# Altium integrated library AD Analog Comparator.IntLib: 78 symbols (part 2 of 2)
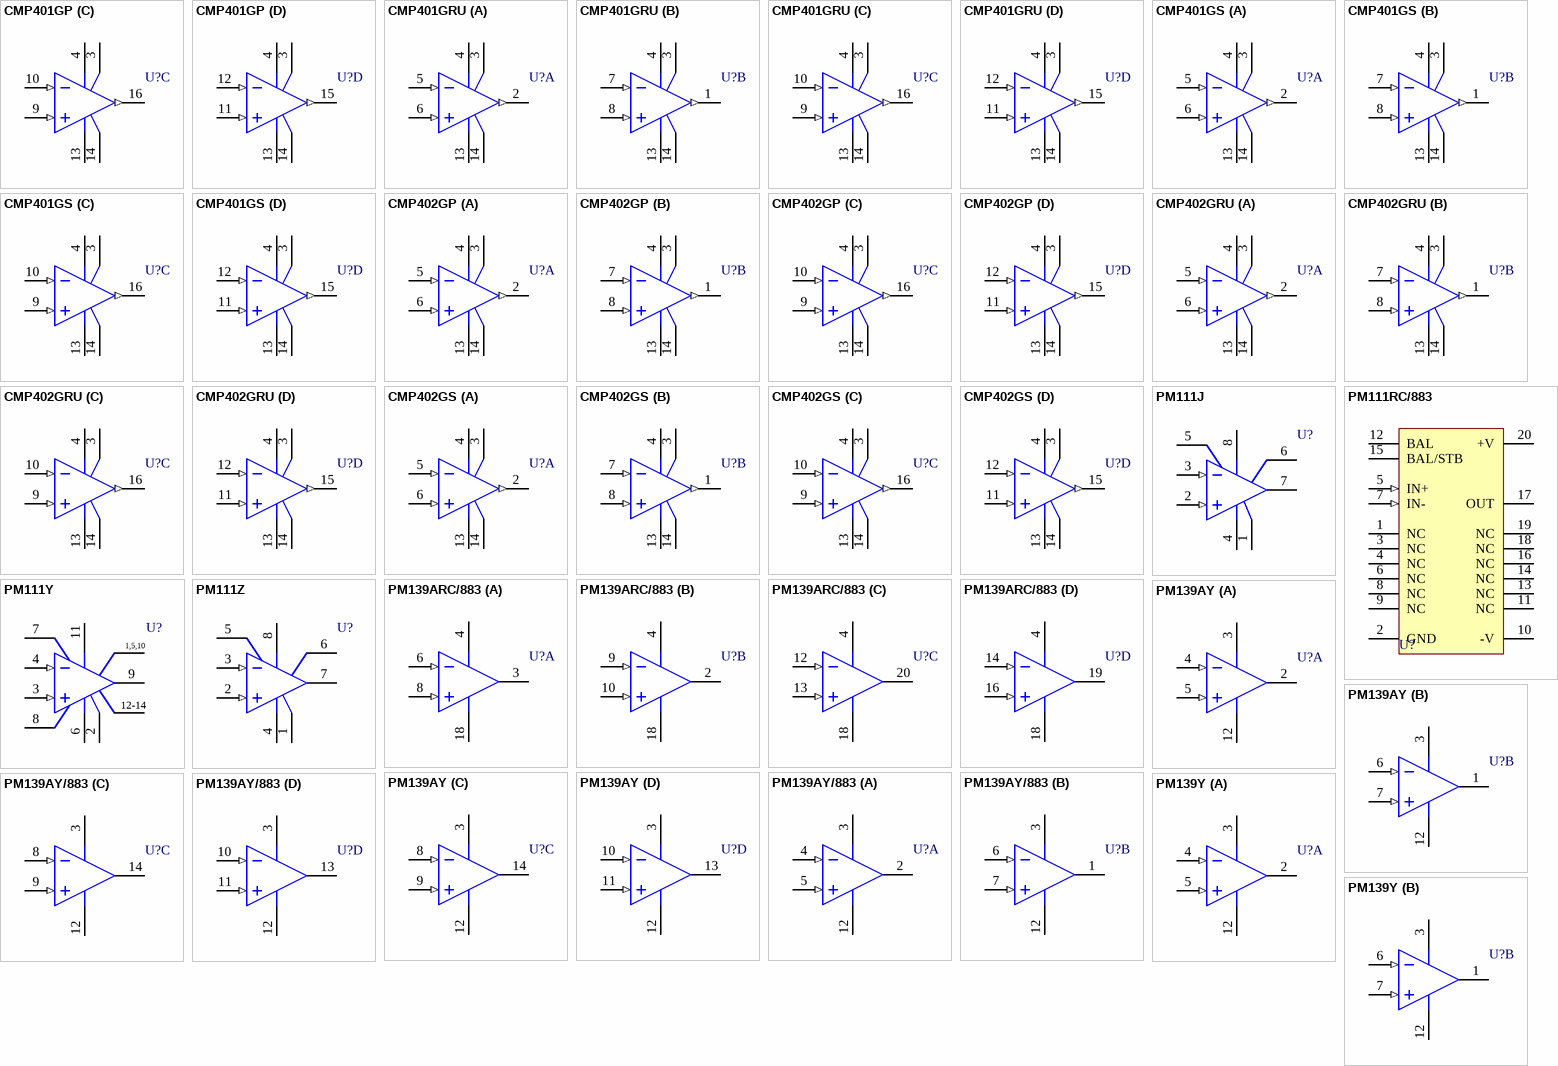
[diagram p4: symbols CMP401GP to PM139Y]

## CMP402GRU
designator U?
23ns and 65ns Low Voltage Comparator; Published: 8-Jun-2000; LatestRevisionDate: 04-Mar-2005; LatestRevisionNote: Stylized 3D Model Added.; DatasheetVersion: REV. 0 1995; PackageVersion: revA; PackageReference: RU-16; Publisher: Altium Limited; PackageDescription: Shrink Small Outline; 16 Leads; Body Width 4.4 mm; Pitch 0.65 mm; ComponentLink1Description: Manufacturer Link; ComponentLink1URL: http://www.analog.com/en/prod/0%2C2877%2CCMP401%2C00.html; ComponentLink2Description: Datasheet; ComponentLink2URL: http://www.analog.com/UploadedFiles/Data_Sheets/171260227CMP401_402_a.pdf
footprint RU-16 (Shrink Small Outline; 16 Leads; Body Width 4.4 mm; Pitch 0.65 mm)
3D model RU-16 (Shrink Small Outline; 16 Leads; Body Width 4.4 mm; Pitch 0.65 mm)
pins on every part: 3 DVCC (power), 4 AVCC (power), 13 AGND (power), 14 DGND (power)
part A pins: 2 OUT (out), 5 IN- (in), 6 IN+ (in)
part B pins: 1 OUT (out), 7 IN- (in), 8 IN+ (in)
part C pins: 9 IN+ (in), 10 IN- (in), 16 OUT (out)
part D pins: 11 IN+ (in), 12 IN- (in), 15 OUT (out)

## CMP402GS
designator U?
23ns and 65ns Low Voltage Comparator; Published: 8-Jun-2000; LatestRevisionDate: 13-Apr-2006; LatestRevisionNote: IPC-7351 Footprint Added.; DatasheetVersion: REV. 0 1995; PackageReference: R-16A; Publisher: Altium Limited; PackageDescription: 16-Pin Small Outline Integrated Circuit 1.27 mm Pitch; Code_JEDEC: MS-012-AC; Code_IPC: SOIC127P600-16; ComponentLink1Description: Manufacturer Link; ComponentLink1URL: http://www.analog.com/en/prod/0%2C2877%2CCMP401%2C00.html; ComponentLink2Description: Datasheet; ComponentLink2URL: http://www.analog.com/UploadedFiles/Data_Sheets/171260227CMP401_402_a.pdf
footprint R-16A_N (SOIC, 16-Leads, Body 9.9x3.9mm, Pitch 1.27mm, IPC Medium Density)
footprint R-16A_L (SOIC, 16-Leads, Body 9.9x3.9mm, Pitch 1.27mm, IPC High Density)
footprint R-16A_M (SOIC, 16-Leads, Body 9.9x3.9mm, Pitch 1.27mm, IPC Low Density)
3D model R-16A (16-Pin Small Outline Integrated Circuit 1.27 mm Pitch)
pins on every part: 3 DVCC (power), 4 AVCC (power), 13 AGND (power), 14 DGND (power)
part A pins: 2 OUT (out), 5 IN- (in), 6 IN+ (in)
part B pins: 1 OUT (out), 7 IN- (in), 8 IN+ (in)
part C pins: 9 IN+ (in), 10 IN- (in), 16 OUT (out)
part D pins: 11 IN+ (in), 12 IN- (in), 15 OUT (out)

## PM111J
designator U?
Precision Voltage Comparator; Published: 8-Jun-2000; LatestRevisionDate: 17-Jul-2002; LatestRevisionNote: Re-released for DXP Platform.; PackageVersion: 1990; PackageReference: H-08A; Publisher: Altium Limited; PackageDescription: Can; 8 Leads; Pin Circle Dia. 5.08 mm; Lead Dia. 0.53 mm (max); ComponentLink1Description: Manufacturer Link; ComponentLink1URL: http://www.analog.com/
footprint H-08A (Can; 8 Leads; Pin Circle Dia. 5.08 mm; Lead Dia. 0.53 mm (max))
pins: 1 GND, 2 IN+ (in), 3 IN- (in), 4 V- (CASE) (power), 5 BAL, 6 BAL/STB, 7 OUT (oc), 8 V+ (power)

## PM111RC/883
designator U?
Precision Voltage Comparator; Note: Pins 1, 3, 4, 6, 8, 9, 11, 13, 14, 16, 18 and 19 are not connected; Published: 8-Jun-2000; LatestRevisionDate: 17-Jul-2002; LatestRevisionNote: Re-released for DXP Platform.; PackageReference: E-20A; Publisher: Altium Limited; PackageDescription: Leadless Chip Carrier; 20 Terminals; Body 8.9 x 8.9 mm; ComponentLink1Description: Manufacturer Link; ComponentLink1URL: http://www.analog.com/
footprint E-20A (Leadless Chip Carrier; 20 Terminals; Body 8.9 x 8.9 mm)
pins: 1 NC, 2 GND, 3 NC, 4 NC, 5 IN+ (in), 6 NC, 7 IN- (in), 8 NC, 9 NC, 10 -V (power), 11 NC, 12 BAL, 13 NC, 14 NC, 15 BAL/STB, 16 NC, 17 OUT (oc), 18 NC, 19 NC, 20 +V (power)

## PM111Y
designator U?
Precision Voltage Comparator; Note: Pins 1, 5, 10, 12, 13 and 14 are not connected; Published: 8-Jun-2000; LatestRevisionDate: 04-Mar-2005; LatestRevisionNote: Stylized 3D Model Added.; PackageVersion: revC, 1998; PackageReference: Q-14_B; Publisher: Altium Limited; PackageDescription: DIP; 14 Leads; Row Spacing 7.62 mm; Pitch 2.54 mm; ComponentLink1Description: Manufacturer Link; ComponentLink1URL: http://www.analog.com/
footprint Q-14_B (DIP; 14 Leads; Row Spacing 7.62 mm; Pitch 2.54 mm)
3D model Q-14B (DIP; 14 Leads; Row Spacing 7.62 mm; Pitch 2.54 mm)
pins: 1 NC, 2 GND, 3 IN+ (in), 4 IN- (in), 5 NC, 6 V- (power), 7 BAL, 8 BAL/STB, 9 OUT (oc), 10 NC, 11 V+ (power), 12 NC, 13 NC, 14 NC
text: 1,5,10; 12-14

## PM111Z
designator U?
Precision Voltage Comparator; Published: 8-Jun-2000; LatestRevisionDate: 04-Mar-2005; LatestRevisionNote: Stylized 3D Model Added.; PackageVersion: 1998; PackageReference: Q-8; Publisher: Altium Limited; PackageDescription: DIP; 8 Leads; Row Spacing 7.62 mm; Pitch 2.54 mm; ComponentLink1Description: Manufacturer Link; ComponentLink1URL: http://www.analog.com/
footprint Q-8 (DIP; 8 Leads; Row Spacing 7.62 mm; Pitch 2.54 mm)
3D model Q-8 (DIP; 8 Leads; Row Spacing 7.62 mm; Pitch 2.54 mm)
pins: 1 GND, 2 IN+ (in), 3 IN- (in), 4 V- (CASE) (power), 5 BAL, 6 BAL/STB, 7 OUT (oc), 8 V+ (power)

## PM139ARC/883
designator U?
Quad Low-Power Voltage Comparator; Note: Pins 1, 5, 7, 11, 15 and 17 are not connected and not drawn; Published: 8-Jun-2000; LatestRevisionDate: 17-Jul-2002; LatestRevisionNote: Re-released for DXP Platform.; PackageReference: E-20A; Publisher: Altium Limited; PackageDescription: Leadless Chip Carrier; 20 Terminals; Body 8.9 x 8.9 mm; ComponentLink1Description: Manufacturer Link; ComponentLink1URL: http://www.analog.com/
footprint E-20A (Leadless Chip Carrier; 20 Terminals; Body 8.9 x 8.9 mm)
pins on every part: 4 V+ (power), 18 GND (power)
part A pins: 3 OUT (oc), 6 IN- (in), 8 IN+ (in)
part B pins: 2 OUT (oc), 9 IN- (in), 10 IN+ (in)
part C pins: 12 IN- (in), 13 IN+ (in), 20 OUT (oc)
part D pins: 14 IN- (in), 16 IN+ (in), 19 OUT (oc)

## PM139AY
designator U?
Quad Low-Power Voltage Comparator; Published: 8-Jun-2000; LatestRevisionDate: 04-Mar-2005; LatestRevisionNote: Stylized 3D Model Added.; PackageVersion: revC, 1998; PackageReference: Q-14_B; Publisher: Altium Limited; PackageDescription: DIP; 14 Leads; Row Spacing 7.62 mm; Pitch 2.54 mm; ComponentLink1Description: Manufacturer Link; ComponentLink1URL: http://www.analog.com/
footprint Q-14_B (DIP; 14 Leads; Row Spacing 7.62 mm; Pitch 2.54 mm)
3D model Q-14B (DIP; 14 Leads; Row Spacing 7.62 mm; Pitch 2.54 mm)
pins on every part: 3 V+ (power), 12 V- (power)
part A pins: 2 OUT (oc), 4 IN- (in), 5 IN+ (in)
part B pins: 1 OUT (oc), 6 IN- (in), 7 IN+ (in)
part C pins: 8 IN- (in), 9 IN+ (in), 14 OUT (oc)
part D pins: 10 IN- (in), 11 IN+ (in), 13 OUT (oc)

## PM139AY/883
designator U?
Quad Low-Power Voltage Comparator; Published: 8-Jun-2000; LatestRevisionDate: 04-Mar-2005; LatestRevisionNote: Stylized 3D Model Added.; PackageVersion: revC, 1998; PackageReference: Q-14_B; Publisher: Altium Limited; PackageDescription: DIP; 14 Leads; Row Spacing 7.62 mm; Pitch 2.54 mm; ComponentLink1Description: Manufacturer Link; ComponentLink1URL: http://www.analog.com/
footprint Q-14_B (DIP; 14 Leads; Row Spacing 7.62 mm; Pitch 2.54 mm)
3D model Q-14B (DIP; 14 Leads; Row Spacing 7.62 mm; Pitch 2.54 mm)
pins on every part: 3 V+ (power), 12 V- (power)
part A pins: 2 OUT (oc), 4 IN- (in), 5 IN+ (in)
part B pins: 1 OUT (oc), 6 IN- (in), 7 IN+ (in)
part C pins: 8 IN- (in), 9 IN+ (in), 14 OUT (oc)
part D pins: 10 IN- (in), 11 IN+ (in), 13 OUT (oc)

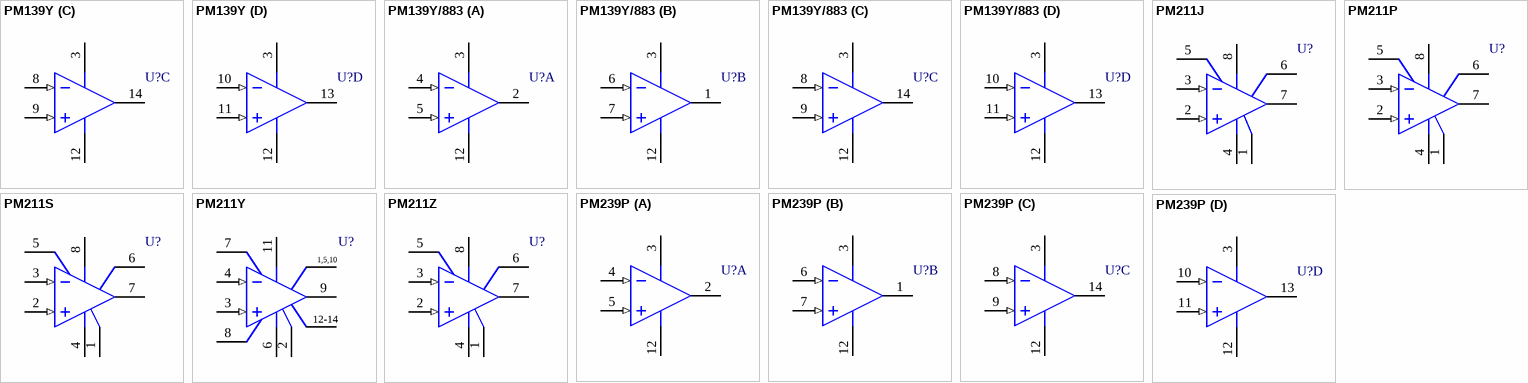
[diagram p3: symbols PM139Y to PM239P]

## PM139Y
designator U?
Quad Low-Power Voltage Comparator; Published: 8-Jun-2000; LatestRevisionDate: 04-Mar-2005; LatestRevisionNote: Stylized 3D Model Added.; PackageVersion: revC, 1998; PackageReference: Q-14_B; Publisher: Altium Limited; PackageDescription: DIP; 14 Leads; Row Spacing 7.62 mm; Pitch 2.54 mm; ComponentLink1Description: Manufacturer Link; ComponentLink1URL: http://www.analog.com/
footprint Q-14_B (DIP; 14 Leads; Row Spacing 7.62 mm; Pitch 2.54 mm)
3D model Q-14B (DIP; 14 Leads; Row Spacing 7.62 mm; Pitch 2.54 mm)
pins on every part: 3 V+ (power), 12 V- (power)
part A pins: 2 OUT (oc), 4 IN- (in), 5 IN+ (in)
part B pins: 1 OUT (oc), 6 IN- (in), 7 IN+ (in)
part C pins: 8 IN- (in), 9 IN+ (in), 14 OUT (oc)
part D pins: 10 IN- (in), 11 IN+ (in), 13 OUT (oc)

## PM139Y/883
designator U?
Quad Low-Power Voltage Comparator; Published: 8-Jun-2000; LatestRevisionDate: 04-Mar-2005; LatestRevisionNote: Stylized 3D Model Added.; PackageVersion: revC, 1998; PackageReference: Q-14_B; Publisher: Altium Limited; PackageDescription: DIP; 14 Leads; Row Spacing 7.62 mm; Pitch 2.54 mm; ComponentLink1Description: Manufacturer Link; ComponentLink1URL: http://www.analog.com/
footprint Q-14_B (DIP; 14 Leads; Row Spacing 7.62 mm; Pitch 2.54 mm)
3D model Q-14B (DIP; 14 Leads; Row Spacing 7.62 mm; Pitch 2.54 mm)
pins on every part: 3 V+ (power), 12 V- (power)
part A pins: 2 OUT (oc), 4 IN- (in), 5 IN+ (in)
part B pins: 1 OUT (oc), 6 IN- (in), 7 IN+ (in)
part C pins: 8 IN- (in), 9 IN+ (in), 14 OUT (oc)
part D pins: 10 IN- (in), 11 IN+ (in), 13 OUT (oc)

## PM211J
designator U?
Precision Voltage Comparator; Published: 8-Jun-2000; LatestRevisionDate: 17-Jul-2002; LatestRevisionNote: Re-released for DXP Platform.; PackageVersion: 1990; PackageReference: H-08A; Publisher: Altium Limited; PackageDescription: Can; 8 Leads; Pin Circle Dia. 5.08 mm; Lead Dia. 0.53 mm (max); ComponentLink1Description: Manufacturer Link; ComponentLink1URL: http://www.analog.com/
footprint H-08A (Can; 8 Leads; Pin Circle Dia. 5.08 mm; Lead Dia. 0.53 mm (max))
pins: 1 GND, 2 IN+ (in), 3 IN- (in), 4 V- (CASE) (power), 5 BAL, 6 BAL/STB, 7 OUT (oc), 8 V+ (power)

## PM211P
designator U?
Precision Voltage Comparator; Published: 8-Jun-2000; LatestRevisionDate: 04-Mar-2005; LatestRevisionNote: Stylized 3D Model Added.; PackageReference: N-8_A; Publisher: Altium Limited; PackageDescription: DIP; 8 Leads; Row Spacing 7.62 mm; Pitch 2.54 mm; Code_JEDEC: MO-001-AN; ComponentLink1Description: Manufacturer Link; ComponentLink1URL: http://www.analog.com/
footprint N-8_A (DIP; 8 Leads; Row Spacing 7.62 mm; Pitch 2.54 mm)
3D model N-8A (DIP; 8 Leads; Row Spacing 7.62 mm; Pitch 2.54 mm)
pins: 1 GND, 2 IN+ (in), 3 IN- (in), 4 V- (CASE) (power), 5 BAL, 6 BAL/STB, 7 OUT (oc), 8 V+ (power)

## PM211S
designator U?
Precision Voltage Comparator; Published: 8-Jun-2000; LatestRevisionDate: 13-Apr-2006; LatestRevisionNote: IPC-7351 Footprint Added.; PackageVersion: revA; PackageReference: SO-8; Publisher: Altium Limited; PackageDescription: 8-Pin Small Outline Integrated Circuit 1.27 mm Pitch; Code_JEDEC: MS-012-AA; Code_IPC: SOIC127P600-8; ComponentLink1Description: Manufacturer Link; ComponentLink1URL: http://www.analog.com/
footprint SO-8_N (SOIC, 8-Leads, Body 4.9x3.9mm, Pitch 1.27mm, IPC Medium Density)
footprint SO-8_L (SOIC, 8-Leads, Body 4.9x3.9mm, Pitch 1.27mm, IPC High Density)
footprint SO-8_M (SOIC, 8-Leads, Body 4.9x3.9mm, Pitch 1.27mm, IPC Low Density)
3D model R-8 (8-Pin Small Outline Integrated Circuit 1.27 mm Pitch)
pins: 1 GND, 2 IN+ (in), 3 IN- (in), 4 V- (CASE) (power), 5 BAL, 6 BAL/STB, 7 OUT (oc), 8 V+ (power)

## PM211Y
designator U?
Precision Voltage Comparator; Note: Pins 1, 5, 10, 12, 13 and 14 are not connected; Published: 8-Jun-2000; LatestRevisionDate: 04-Mar-2005; LatestRevisionNote: Stylized 3D Model Added.; PackageVersion: revC, 1998; PackageReference: Q-14_B; Publisher: Altium Limited; PackageDescription: DIP; 14 Leads; Row Spacing 7.62 mm; Pitch 2.54 mm; ComponentLink1Description: Manufacturer Link; ComponentLink1URL: http://www.analog.com/
footprint Q-14_B (DIP; 14 Leads; Row Spacing 7.62 mm; Pitch 2.54 mm)
3D model Q-14B (DIP; 14 Leads; Row Spacing 7.62 mm; Pitch 2.54 mm)
pins: 1 NC, 2 GND, 3 IN+ (in), 4 IN- (in), 5 NC, 6 V- (power), 7 BAL, 8 BAL/STB, 9 OUT (oc), 10 NC, 11 V+ (power), 12 NC, 13 NC, 14 NC
text: 1,5,10; 12-14

## PM211Z
designator U?
Precision Voltage Comparator; Published: 8-Jun-2000; LatestRevisionDate: 04-Mar-2005; LatestRevisionNote: Stylized 3D Model Added.; PackageVersion: 1998; PackageReference: Q-8; Publisher: Altium Limited; PackageDescription: DIP; 8 Leads; Row Spacing 7.62 mm; Pitch 2.54 mm; ComponentLink1Description: Manufacturer Link; ComponentLink1URL: http://www.analog.com/
footprint Q-8 (DIP; 8 Leads; Row Spacing 7.62 mm; Pitch 2.54 mm)
3D model Q-8 (DIP; 8 Leads; Row Spacing 7.62 mm; Pitch 2.54 mm)
pins: 1 GND, 2 IN+ (in), 3 IN- (in), 4 V- (CASE) (power), 5 BAL, 6 BAL/STB, 7 OUT (oc), 8 V+ (power)

## PM239P
designator U?
Quad Low-Power Voltage Comparator; Published: 8-Jun-2000; LatestRevisionDate: 04-Mar-2005; LatestRevisionNote: Stylized 3D Model Added.; PackageVersion: 1999; PackageReference: N-14; Publisher: Altium Limited; PackageDescription: DIP; 14 Leads; Row Spacing 7.62 mm; Pitch 2.54 mm; ComponentLink1Description: Manufacturer Link; ComponentLink1URL: http://www.analog.com/
footprint N-14 (DIP; 14 Leads; Row Spacing 7.62 mm; Pitch 2.54 mm)
3D model Q-14B (DIP; 14 Leads; Row Spacing 7.62 mm; Pitch 2.54 mm)
pins on every part: 3 V+ (power), 12 V- (power)
part A pins: 2 OUT (oc), 4 IN- (in), 5 IN+ (in)
part B pins: 1 OUT (oc), 6 IN- (in), 7 IN+ (in)
part C pins: 8 IN- (in), 9 IN+ (in), 14 OUT (oc)
part D pins: 10 IN- (in), 11 IN+ (in), 13 OUT (oc)